# EAGLE library part SA602A (library baiyun)
Double Balanced Mixer
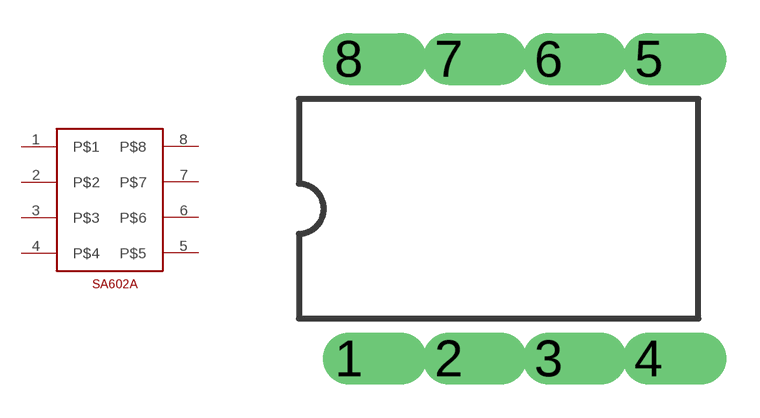
[diagram p195: symbol with the pads of DIL08; footprint DIL08]

Designator prefix -

## SA602A  [DIL08]
1  P$1  in
2  P$2  in
3  P$3  pwr
4  P$4  out
5  P$5  out
6  P$6  in
7  P$7  in
8  P$8  pwr

## Footprint DIL08 (pad centres in mm)
Dual In Line 8
drill 0.813 offset: 1 -3.81,-3.81; 2 -1.27,-3.81; 3 1.27,-3.81; 4 3.81,-3.81; 5 3.81,3.81; 6 1.27,3.81; 7 -1.27,3.81; 8 -3.81,3.81